# Altium schematic symbol library Schlib1.SchLib: 3 symbols
Pins are listed as number, name and electrical type; pins without a type are passive.

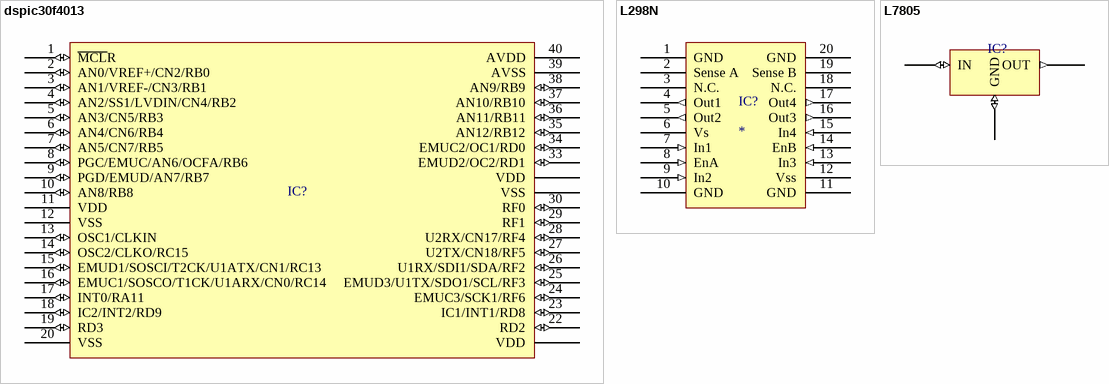
[diagram p0: symbols dspic30f4013 to L7805]

## dspic30f4013
designator IC?  (value not drawn)
pins: 1 ~{MCL}R (io), 2 AN0/VREF+/CN2/RB0 (io), 3 AN1/VREF-/CN3/RB1 (io), 4 AN2/SS1/LVDIN/CN4/RB2 (io), 5 AN3/CN5/RB3 (io), 6 AN4/CN6/RB4 (io), 7 AN5/CN7/RB5 (io), 8 PGC/EMUC/AN6/OCFA/RB6 (io), 9 PGD/EMUD/AN7/RB7 (io), 10 AN8/RB8 (io), 11 VDD, 12 VSS, 13 OSC1/CLKIN (io), 14 OSC2/CLKO/RC15 (io), 15 EMUD1/SOSCI/T2CK/U1ATX/CN1/RC13 (io), 16 EMUC1/SOSCO/T1CK/U1ARX/CN0/RC14 (io), 17 INT0/RA11 (io), 18 IC2/INT2/RD9 (io), 19 RD3 (io), 20 VSS, 21 VDD, 22 RD2 (io), 23 IC1/INT1/RD8 (io), 24 EMUC3/SCK1/RF6 (io), 25 EMUD3/U1TX/SDO1/SCL/RF3 (io), 26 U1RX/SDI1/SDA/RF2 (io), 27 U2TX/CN18/RF5 (io), 28 U2RX/CN17/RF4 (io), 29 RF1 (io), 30 RF0 (io), 31 VSS, 32 VDD, 33 EMUD2/OC2/RD1 (io), 34 EMUC2/OC1/RD0 (io), 35 AN12/RB12 (io), 36 AN11/RB11 (io), 37 AN10/RB10 (io), 38 AN9/RB9 (io), 39 AVSS, 40 AVDD

## L298N
designator IC?
pins: 1 GND, 2 Sense A, 3 N.C., 4 Out1 (out), 5 Out2 (out), 6 Vs, 7 In1 (in), 8 EnA (in), 9 In2 (in), 10 GND, 11 GND, 12 Vss, 13 In3 (in), 14 EnB (in), 15 In4 (in), 16 Out3 (out), 17 Out4 (out), 18 N.C., 19 Sense B, 20 GND

## L7805
designator IC?  (value not drawn)
pins: 38 IN (io), 39 GND (io), 40 OUT (out)